# EAGLE library part LOGIKPEGELWANDLER-R-PVQFN-N24 (library TI Logikpegelwandler)
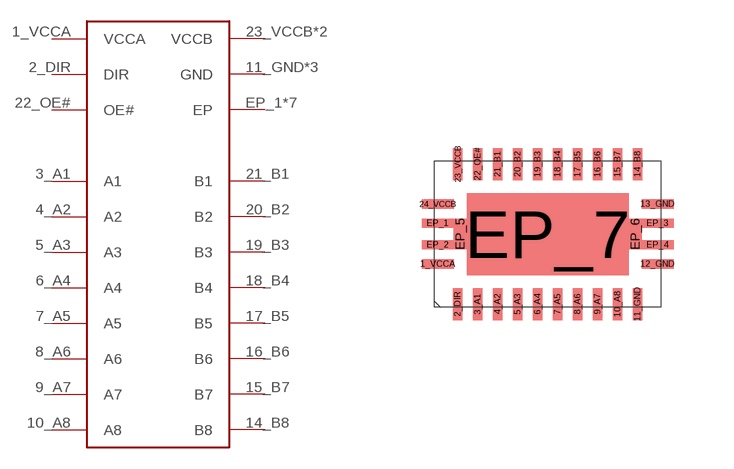
[diagram p0: symbol with the pads of R-PVQFN-N24; footprint R-PVQFN-N24]

Designator prefix -

## LOGIKPEGELWANDLER-R-PVQFN-N24  [R-PVQFN-N24]
1_VCCA  VCCA
2_DIR  DIR
3_A1  A1
4_A2  A2
5_A3  A3
6_A4  A4
7_A5  A5
8_A6  A6
9_A7  A7
10_A8  A8
11_GND  GND
12_GND  GND
13_GND  GND
14_B8  B8
15_B7  B7
16_B6  B6
17_B5  B5
18_B4  B4
19_B3  B3
20_B2  B2
21_B1  B1
22_OE#  OE#
23_VCCB  VCCB
24_VCCB  VCCB
EP_1  EP
EP_2  EP
EP_3  EP
EP_4  EP
EP_5  EP
EP_6  EP
EP_7  EP

## Footprint R-PVQFN-N24 (pad centres in mm)
smd 0.8 x 0.23: 1_VCCA -2.75,-0.75; 12_GND 2.75,-0.75; 13_GND 2.75,0.75; 24_VCCB -2.75,0.75; EP_1 -2.75,0.27; EP_2 -2.75,-0.27; EP_3 2.75,0.27; EP_4 2.75,-0.27
smd 0.23 x 0.8: 2_DIR -2.25,-1.75; 3_A1 -1.75,-1.75; 4_A2 -1.25,-1.75; 5_A3 -0.75,-1.75; 6_A4 -0.25,-1.75; 7_A5 0.25,-1.75; 8_A6 0.75,-1.75; 9_A7 1.25,-1.75; 10_A8 1.75,-1.75; 11_GND 2.25,-1.75; 14_B8 2.25,1.75; 15_B7 1.75,1.75; 16_B6 1.25,1.75; 17_B5 0.75,1.75; 18_B4 0.25,1.75; 19_B3 -0.25,1.75; 20_B2 -0.75,1.75; 21_B1 -1.25,1.75; 22_OE# -1.75,1.75; 23_VCCB -2.25,1.75
smd 0.33 x 0.77: EP_5 -2.19,0; EP_6 2.19,0
smd 4.05 x 2.05: EP_7 0,0